# Altium footprint library Diodes.PcbLib: 31 footprints (part 1 of 2)
Each footprint in its own frame and in the unit in brackets; x right, y up, seen from the top. Pads: shape width x height; smd on the part's side, far side on the other; paste and mask are expansions set on the pad; w line width, h text height; cw(c..) or ccw(c..) is an arc to the next point about the centre after c.
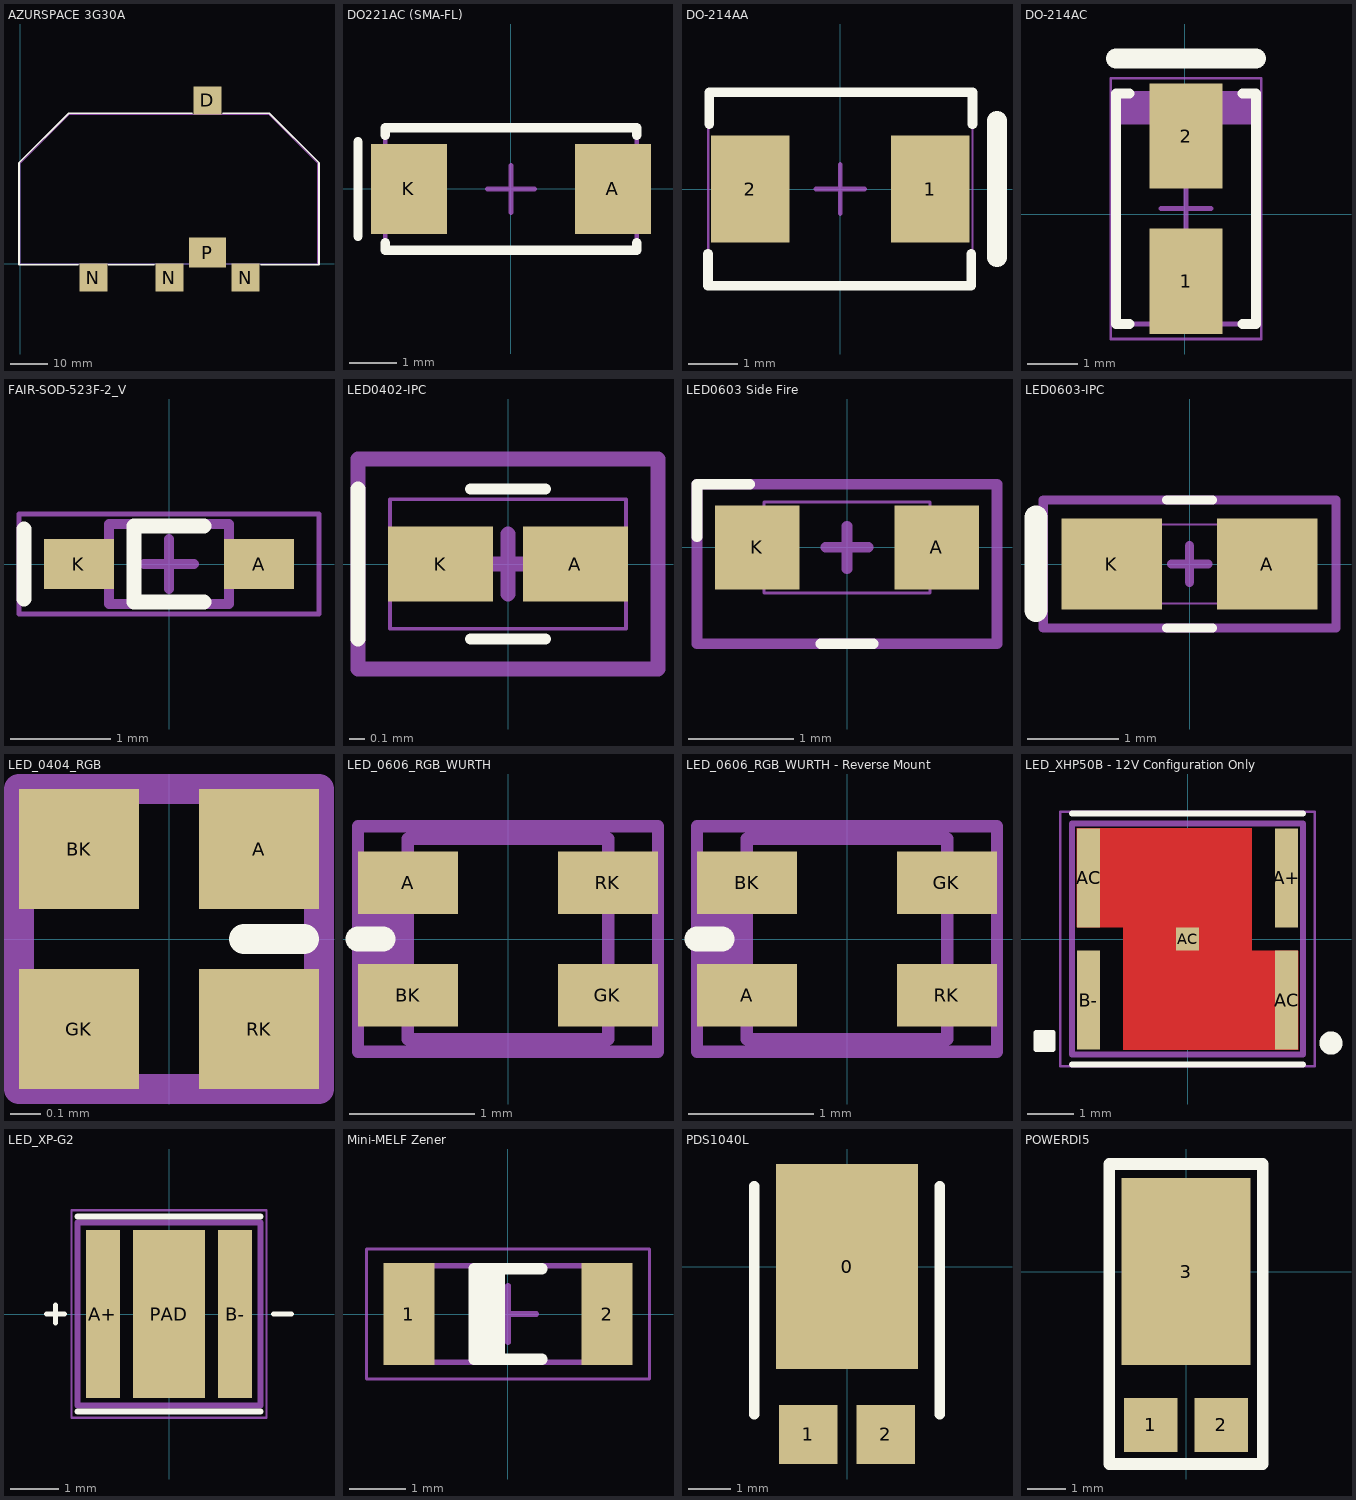
[diagram p0: the footprints below, top view; thin cyan lines are the x and y axes]

## AZURSPACE 3G30A [mm] "TJ Solar Cell Assembly 3G30A"
height 0.305
pads (5):
  rect 7.5x7.5 smd: D(50.5,44) N(19.75,-3.75) N(40.25,-3.75) N(60.75,-3.75)
  rect 10x8 smd: P(50.5,3)
Top Overlay:
  lines w0.5: 13.3,40.55 46.4,40.55 ; 13.5,40.55 13.1,40.55 -0.3,27.15 -0.3,-0.3 15.65,-0.3 ; 23.85,-0.3 36.15,-0.3 ; 54.65,40.55 67.15,40.55 80.55,27.15 80.55,-0.3 64.85,-0.3
Mechanical 15:
  lines w0.1: 0,0 0,27 13.25,40.25 67,40.25 80.25,27 80.25,0 0,0
3D body: height 0.31, standoff 0, extent -0.501,-0.501 80.501,40.501

## DO221AC (SMA-FL) [mm] "SMA-FL DO221AC"
height 1.08
pads (2):
  rect 1.6x1.9 smd: A(2.15,0) K(-2.15,0)
Top Overlay:
  lines w0.2: -3.225,-1 -3.225,1 ; -2.65,-1.138 -2.65,-1.288 2.65,-1.288 2.65,-1.138 ; -2.65,1.138 -2.65,1.288 2.65,1.288 2.65,1.138
Top Assembly Dwg:
  lines w0.1: -2.65,-1.288 2.65,-1.288 2.65,1.288 -2.65,1.288 -2.65,-1.288
Mechanical 15:
  lines w0.1: -0.5,0 0.5,0 ; 0,-0.5 0,0.5
3D body "DO-221AC (SlimSMA).step": height 0.9, standoff 0, extent -2.65,-1.288 2.65,1.288

## DO-214AA [mm]
pads (2):
  rect 1.6x2.18 smd: 1(1.84,0) 2(-1.836,0)
Top Overlay:
  lines w0.2: -2.699,-1.321 -2.699,-1.975 2.675,-1.975 2.675,-1.321 ; -2.675,1.321 -2.675,1.975 2.699,1.975 2.699,1.321
  lines w0.4: 3.2,-1.395 3.2,1.395
Mechanical 15:
  lines w0.05: -2.7,-1.975 2.7,-1.975 2.7,1.975 -2.7,1.975 -2.7,-1.975
  lines w0.1: -0.5,0 0.5,0 ; 0,-0.5 0,0.5
3D body "SMB (DO-214AA).STEP": height 2.5, standoff 0, extent -2.7,-1.95 2.7,1.95

## DO-214AC [mm]
pads (2):
  rect 1.45x2.1 smd: 1(0.02,-1.343) 2(0.02,1.557)
Top Overlay:
  lines w0.2: -1.105,-2.193 -1.38,-2.193 -1.38,2.407 -1.105,2.407 ; 1.145,-2.193 1.42,-2.193 1.42,2.407 1.145,2.407
  lines w0.4: -1.375,3.107 1.415,3.107
3D Bodies:
  region: 1.415,1.788 1.415,2.407 -1.375,2.407 -1.375,1.788
  lines w0.1: -1.375,-2.193 -1.375,2.407 1.415,2.407 1.415,-2.193 -1.375,-2.193
Mechanical 15:
  lines w0.05: -1.48,-2.493 -1.48,2.707 1.52,2.707 1.52,-2.493 -1.48,-2.493
  lines w0.1: -0.48,0.107 0.52,0.107 ; 0.02,-0.393 0.02,0.607
3D body "DIOM4326X23L.step": height 2.29, standoff 0, extent -1.375,-2.413 1.415,2.627

## FAIR-SOD-523F-2_V [mm] "SMD, 2-Leads, Body 1.2x0.8mm, Height 0.7mm"
height 0.7
pads (2):
  rect 0.7x0.5 smd: A(0.9,0) K(-0.9,0)
Top Overlay:
  lines w0.15: -1.45,-0.35 -1.45,0.35 ; 0.35,-0.381 -0.35,-0.381 -0.35,0.381 0.35,0.381
Top 3D Body:
  lines w0.1: -0.6,-0.4 -0.6,0.4 0.6,0.4 0.6,-0.4 -0.6,-0.4
Top Assembly:
  lines w0.05: -1.5,-0.5 -1.5,0.5 1.5,0.5 1.5,-0.5 -1.5,-0.5
  lines w0.1: -0.25,0 0.25,0 ; 0,-0.25 0,0.25
3D body "CR_SOD-523F_ONS.step": height 0.72, standoff 0, extent -0.851,-0.444 0.851,0.444

## LED0402-IPC [mm]
pads (2):
  rect 0.7x0.5 smd: A(0.45,0) K(-0.45,0)
Top Overlay:
  lines w0.075: -0.25,-0.5 0.25,-0.5 ; -0.25,0.5 0.25,0.5
  lines w0.1: -1,-0.5 -1,0.5
Top Assembly Dwg:
  lines w0.025: -0.787,-0.432 0.787,-0.432 0.787,0.432 -0.787,0.432 -0.787,-0.432
Mechanical 15:
  lines w0.1: -0.2,0 0.2,0 ; 0,-0.2 0,0.2 ; -1,-0.7 -1,0.7 1,0.7 1,-0.7 -1,-0.7
3D body "0402 LED Green v2.step": height 0.37, standoff 0.01, extent -0.5,-0.25 0.5,0.25

## LED0603 Side Fire [mm] "LTW-270TLA"
pads (2):
  rect 0.8x0.8 smd: A(0.85,0) K(-0.85,0)
Top Overlay:
  lines w0.1: -1.422,0.1 -1.422,0.6 -0.922,0.6 ; -0.25,-0.914 0.25,-0.914
Top Assembly Dwg:
  lines w0.025: -0.787,-0.432 0.787,-0.432 0.787,0.432 -0.787,0.432 -0.787,-0.432
Mechanical 15:
  lines w0.1: -0.2,0 0.2,0 ; 0,-0.2 0,0.2 ; -1.422,-0.914 -1.422,0.6 1.422,0.6 1.422,-0.914 -1.422,-0.914
3D body "LTW-270TLA v0.step": height 0.61, standoff 0.01, extent -0.8,-0.81 0.8,0.34

## LED0603-IPC [mm]
pads (2):
  rect 1.1x1 smd: A(0.85,0) K(-0.85,0)
Top Overlay:
  lines w0.1: -0.25,-0.7 0.25,-0.7 ; -0.25,0.7 0.25,0.7
  lines w0.254: -1.68,-0.506 -1.68,0.51
Top Assembly Dwg:
  lines w0.025: -0.787,-0.432 0.787,-0.432 0.787,0.432 -0.787,0.432 -0.787,-0.432
Mechanical 15:
  lines w0.1: -0.2,0 0.2,0 ; 0,-0.2 0,0.2 ; -1.6,-0.7 -1.6,0.7 1.6,0.7 1.6,-0.7 -1.6,-0.7
3D body "AP1608.STEP": height 1.1, standoff 0, extent -0.8,-0.4 0.8,0.4

## LED_0404_RGB [mm] "Chip; Body 1 x 1 mm (LxW typ) CREE"
height 0.55
pads (4):
  rect 0.4x0.4 smd: A(0.3,0.3) BK(-0.3,0.3) GK(-0.3,-0.3) RK(0.3,-0.3)
Top Overlay:
  lines w0.1: 0.25,0 0.45,0
3D Bodies:
  lines w0.1: -0.5,-0.5 -0.5,0.5 0.5,0.5 0.5,-0.5 -0.5,-0.5
Mechanical 15:
  lines w0.1: -0.5,-0.5 -0.5,0.5 0.5,0.5 0.5,-0.5 -0.5,-0.5
3D body "0404 LED v10.step": height 0.8, standoff 0, extent -0.5,-0.5 0.5,0.5

## LED_0606_RGB_WURTH [mm] "Chip; Body 1.6 x 1.6 mm (LxW typ) WURTH"
height 0.55
pads (4):
  rect 0.8x0.5 smd: A(-0.8,0.45) BK(-0.8,-0.45) GK(0.8,-0.45) RK(0.8,0.45)
Top Overlay:
  lines w0.2: -1.2,0 -1,0
3D Bodies:
  lines w0.1: -0.8,-0.8 -0.8,0.8 0.8,0.8 0.8,-0.8 -0.8,-0.8
Mechanical 15:
  lines w0.1: -1.2,-0.2 -0.9,-0.2 -0.9,0.2 -1.2,0.2 ; -1.1,-0.2 -1.1,0.2 ; -1,-0.2 -1,0.2 ; 1.2,-0.6 1.2,0 ; -1.2,-0.9 1.2,-0.9 1.2,0.9 -1.2,0.9 -1.2,-0.9
  text ".designator" at 1.016,0.254 h0.5
3D body "STEP-WL-SFCW-0606-rev1.stp": height 0.4, standoff 0, extent -0.8,-0.8 0.8,0.8

## LED_0606_RGB_WURTH - Reverse Mount [mm] "Chip; Body 1.6 x 1.6 mm (LxW typ) WURTH"
height 0.55
pads (4):
  rect 0.8x0.5 smd: A(-0.8,-0.45) BK(-0.8,0.45) GK(0.8,0.45) RK(0.8,-0.45)
Top Overlay:
  lines w0.2: -1.2,0 -1,0
3D Bodies:
  lines w0.1: -0.8,-0.8 -0.8,0.8 0.8,0.8 0.8,-0.8 -0.8,-0.8
Mechanical 15:
  lines w0.1: -1.2,-0.2 -0.9,-0.2 -0.9,0.2 -1.2,0.2 ; -1.1,-0.2 -1.1,0.2 ; -1,-0.2 -1,0.2 ; 1.2,-0.6 1.2,0 ; -1.2,-0.9 1.2,-0.9 1.2,0.9 -1.2,0.9 -1.2,-0.9
  text ".designator" at 1.016,0.254 h0.5
3D body "STEP-WL-SFCW-0606-rev1.stp": height 0.41, standoff 0.01, extent -0.8,-0.8 0.8,0.8

## LED_XHP50B - 12V Configuration Only [mm] "Cree XHP50.3 12V Footprint"
pads (5):
  rect 0.5x2.14 smd: A+(2.14,1.32) AC(-2.14,1.32) AC(2.14,-1.32) B-(-2.14,-1.32)
  rect 0.5x0.5 smd paste-1 mask+0: AC(0,0)
Top Layer:
  region: 1.39,-0.25 2.39,-0.25 2.39,-2.39 -1.39,-2.39 -1.39,0.25 -2.39,0.25 -2.39,2.39 1.39,2.39
Top Overlay:
  circle w0.3: c3.1,-2.25 r0.1
  rectangle: -3.275,-2.388 -2.9,-2.013
  lines w0.1: -3.275,-2.388 -2.9,-2.388 -2.9,-2.013 -3.275,-2.013 -3.275,-2.388
  lines w0.127: -2.5,-2.71 2.5,-2.71 ; -2.5,2.71 2.5,2.71
Top Paste:
  region: 1.095,1.175 0.125,1.175 0.125,1.975 1.095,1.975
  region: -0.125,1.175 -1.095,1.175 -1.095,1.975 -0.125,1.975
  region: 1.095,-1.975 0.125,-1.975 0.125,-1.175 1.095,-1.175
  region: -0.125,-1.975 -1.095,-1.975 -1.095,-1.175 -0.125,-1.175
  region: 1.095,-0.925 0.125,-0.925 0.125,-0.125 1.095,-0.125
  region: -0.125,-0.925 -1.095,-0.925 -1.095,-0.125 -0.125,-0.125
  region: -0.125,0.125 -1.095,0.125 -1.095,0.925 -0.125,0.925
  region: 1.095,0.125 0.125,0.125 0.125,0.925 1.095,0.925
  region: 2.39,-2.39 1.89,-2.39 1.89,-0.25 2.39,-0.25
  region: -1.89,0.25 -2.39,0.25 -2.39,2.39 -1.89,2.39
Top Solder:
  region: 1.49,-0.15 1.49,-2.49 -1.49,-2.49 -1.49,0.15 -1.49,2.49 1.49,2.49
3D Bodies:
  lines w0.127: -2.5,-2.5 -2.5,2.5 2.5,2.5 2.5,-2.5 -2.5,-2.5
Mechanical 15:
  lines w0.05: -2.75,-2.75 -2.75,2.75 2.75,2.75 2.75,-2.75 -2.75,-2.75
3D body "Cree LED XLamp XHP50.2 v4.step": height 3.49, standoff 0.01, extent -2.5,-2.5 2.5,2.5

## LED_XP-G2 [mm] "Cree XP-G21"
pads (3):
  rect 0.7x3.5 smd mask+0: A+(-1.375,0) B-(1.375,0)
  rect 1.5x3.5 smd mask+0: PAD(0,0)
Top Overlay:
  lines w0.1: -2.55,0 -2.175,0 ; -2.362,-0.188 -2.362,0.187 ; 2.175,0 2.55,0
  lines w0.127: -1.905,-2.032 1.905,-2.032 ; -1.905,2.032 1.905,2.032
3D Bodies:
  lines w0.127: -1.905,-1.905 1.905,-1.905 1.905,1.905 -1.905,1.905 -1.905,-1.905
Mechanical 15:
  lines w0.05: -2.032,-2.159 -2.032,2.159 2.032,2.159 2.032,-2.159 -2.032,-2.159
3D body "Cree LED XLamp XP-G2 v2.step": height 2.17, standoff -0.08, extent -1.725,-1.725 1.725,1.725

## Mini-MELF Zener [mm] "MELF Diode, 2-Leads, Body 3.50x1.65mm, IPC Medium Density"
height 1.7
pads (2):
  rect 0.9x1.8 smd: 1(-1.75,0) 2(1.75,0)
Top Overlay:
  rectangle: -0.6,-0.8 -0.05,0.8
  lines w0.2: 0.6,-0.8 -0.6,-0.8 -0.6,0.8 0.6,0.8
3D Bodies:
  lines w0.1: -1.85,-0.85 -1.85,0.85 1.85,0.85 1.85,-0.85 -1.85,-0.85
Mechanical 15:
  lines w0.05: -2.5,-1.15 -2.5,1.15 2.5,1.15 2.5,-1.15 -2.5,-1.15
  lines w0.1: -0.5,0 0.5,0 ; 0,-0.5 0,0.5
3D body "MiniMelfDiode v4.step": height 1.63, standoff 0.04, extent -1.85,-0.797 1.85,0.797

## PDS1040L [mm] "Diode Schottky 40V 10A Surface Mount PowerDI™ 5"
height 1.15
pads (3):
  rect 3.36x4.86 smd: 0(0,0)
  rect 1.39x1.4 smd: 1(-0.92,-3.982) 2(0.92,-3.982)
Top Overlay:
  lines w0.254: -2.2,-3.5 -2.2,1.9 ; 2.2,-3.5 2.2,1.9
Mechanical 15:
  lines w0.1: -0.4,0 0,0 ; 0,-0.4 0,0 ; 0,0.4 0,0 ; 0.4,0 0,0
3D body "PowerDI-5.STEP": height 1.17, standoff 0.02, extent -2.025,-4.3 2.025,2.3

## POWERDI5 [mm]
pads (3):
  rect 1.39x1.4 smd: 1(-0.92,-3.982) 2(0.92,-3.982)
  rect 3.36x4.86 smd: 3(0,0)
Top Overlay:
  lines w0.3: -2,2.4 -2,2.8 2,2.8 2,-5 -2,-5 -2,2.5
3D body "PowerDI-5.STEP": height 1.14, standoff -0.01, extent -2.025,-4.5 2.025,2.1